# Altium footprint library VS-20BQ030-M3.PcbLib: 1 footprints
Each footprint in its own frame and in the unit in brackets; x right, y up, seen from the top. Pads: shape width x height; smd on the part's side, far side on the other; paste and mask are expansions set on the pad; w line width, h text height; cw(c..) or ccw(c..) is an arc to the next point about the centre after c.
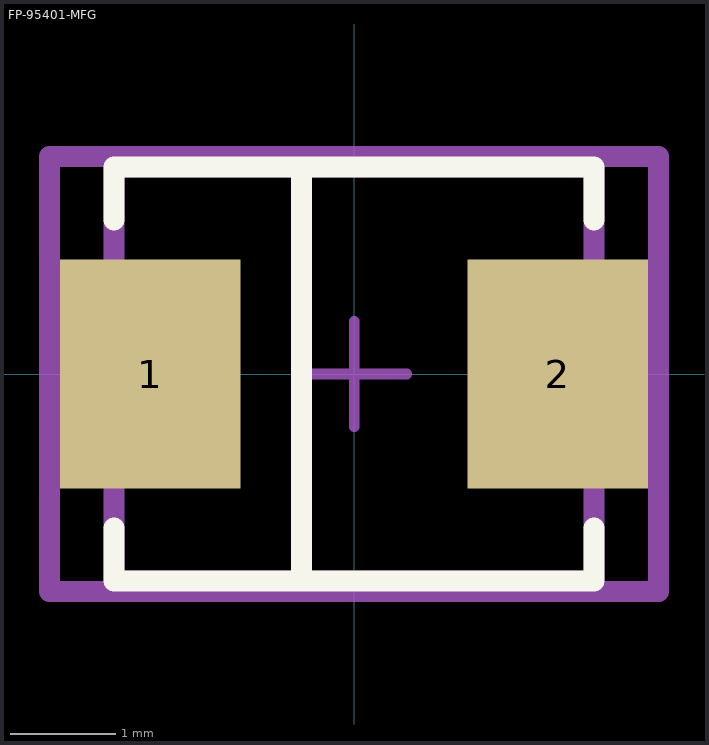
[diagram p0: the footprint, top view; thin cyan lines are the x and y axes]

## FP-95401-MFG [mm]
pads (2):
  rect 1.716x2.18 smd paste+0 mask+0: 1(-1.937,0) 2(1.937,0)
Top Overlay:
  lines w0.2: -2.285,-1.465 -2.285,-1.97 2.285,-1.97 2.285,-1.465 ; -2.285,1.465 -2.285,1.97 2.285,1.97 2.285,1.465 ; -0.5,-1.9 -0.5,1.9
Top Assembly:
  lines w0.2: -2.895,-2.07 -2.895,2.07 2.895,2.07 2.895,-2.07 -2.895,-2.07
  text ".Designator" at 0,0.187 h1
Top 3D Body:
  lines w0.2: -2.285,-1.97 -2.285,1.97 2.285,1.97 2.285,-1.97 -2.285,-1.97
Top Courtyard:
  lines w0.2: -2.895,-2.07 -2.895,2.07 2.895,2.07 2.895,-2.07 -2.895,-2.07
Top Component Center:
  lines w0.1: -0.5,0 0.5,0 ; 0,-0.5 0,0.5
3D body "Diode_Vishay_VS-20BQ030-M3-5BT_eec.STEP": height 0.25, standoff 0, extent -2.895,-2.07 2.895,2.07